# Altium footprint library RF.PcbLib: 2 footprints
Each footprint in its own frame and in the unit in brackets; x right, y up, seen from the top. Pads: shape width x height; smd on the part's side, far side on the other; paste and mask are expansions set on the pad; w line width, h text height; cw(c..) or ccw(c..) is an arc to the next point about the centre after c.
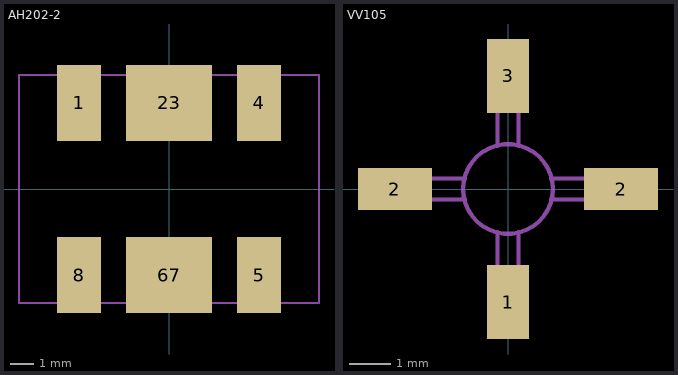
[diagram p0: the footprints below, top view; thin cyan lines are the x and y axes]

## AH202-2 [mil] "Power Splitter/Combiner 2way 50R 5 to 2500MHz"
height 250
pads (6):
  rect 74x127 smd: 1(-150,143.5) 4(150,143.5) 5(150,-143.5) 8(-150,-143.5)
  rect 144x127 smd: 23(0,143.5) 67(0,-143.5)
Mechanical 13:
  lines w4: -250,-190 -250,190 -170,190 ccw(c-150,190) -130,190 -60,190 ccw(c-40,190) -20,190 20,190 ccw(c40,190) 60,190 130,190 ccw(c150,190) 170,190 250,190 250,-190 170,-190 ccw(c150,-190) 130,-190 60,-190 ccw(c40,-190) 20,-190 -20,-190 ccw(c-40,-190) -60,-190 -130,-190 ccw(c-150,-190) -170,-190 -250,-190
3D body: height 20, standoff 0, extent -250,-190 250,190
3D body: height 250, standoff 20, extent -210,-165 210,165
3D body: height 250.01, standoff 250, extent -179.84,80.04 -120.08,139.92

## VV105 [mil] "RF amplifier"
height 60
pads (4):
  rect 40x70 smd: 1(0,-107) 3(0,107)
  rect 70x40 smd: 2(-107,0) 2(107,0)
Mechanical 13:
  circle w4: c0,0 r42.5
  lines w4: -41,-10 -125,-10 -125,10 -41,10 ; -10,-41 -10,-105 10,-125 10,-41 ; -10,41 -10,125 10,125 10,41 ; 41,-10 125,-10 125,10 41,10
3D body: height 8, standoff 0, extent -10,-125 10,-41
3D body: height 8, standoff 0, extent 41,-10 125,10
3D body: height 8, standoff 0, extent -10,41 10,125
3D body: height 8, standoff 0, extent -125,-10 -41,10
3D body: height 60.01, standoff 60, extent -9.95,-35.98 9.97,-16.02
3D body: height 60, standoff 0, extent -42.16,-42.41 42.51,42.42